# Altium footprint library relays.PcbLib: 20 footprints (part 1 of 2)
Each footprint in its own frame and in the unit in brackets; x right, y up, seen from the top. Pads: shape width x height; smd on the part's side, far side on the other; paste and mask are expansions set on the pad; w line width, h text height; cw(c..) or ccw(c..) is an arc to the next point about the centre after c.
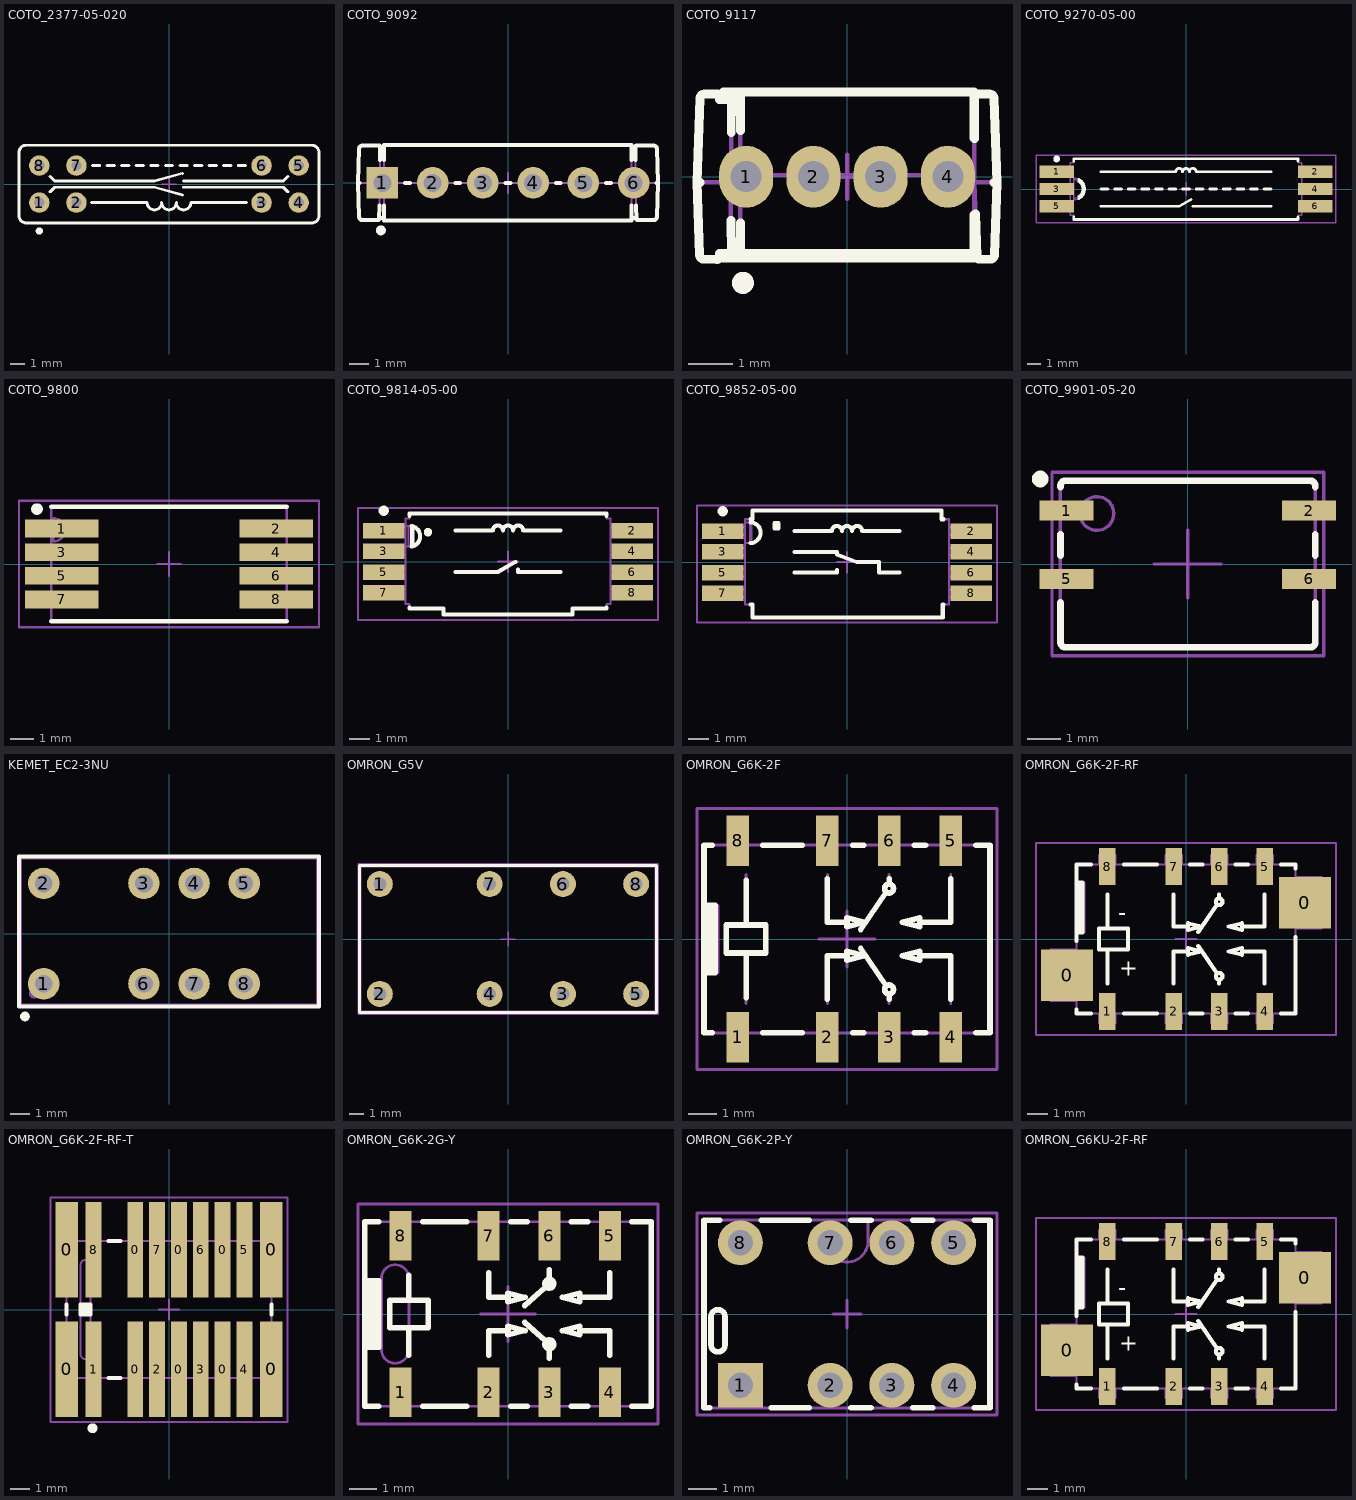
[diagram p0: the footprints below, top view; thin cyan lines are the x and y axes]

## COTO_2377-05-020 [mm] "8 Leads DPST (2 Form A) Reed Relay, Coaxial Shield, 2370 Series"
height 9.7
pads (8):
  round 1.4 hole 0.7: 1(-8.89,-1.27) 2(-6.35,-1.27) 3(6.35,-1.27) 4(8.89,-1.27) 5(8.89,1.27) 6(6.35,1.27) 7(-6.35,1.27) 8(-8.89,1.27)
Top Overlay:
  circle w0.25: c-8.89,-3.215 r0.125
  lines w0.2: -8.148,-0.528 -7.84,-0.22 -1,-0.22 0.932,-0.738 ; -8.148,0.528 -7.84,0.22 -1,0.22 0.932,0.738 ; -5.3,-1.27 -1.5,-1.27 ccw(c-1,-1.27) -0.5,-1.27 ccw(c0,-1.27) 0.5,-1.27 ccw(c1,-1.27) 1.5,-1.27 5.3,-1.27 ; -5.25,1.27 -4.75,1.27 ; -4.25,1.27 -3.75,1.27 ; -3.25,1.27 -2.75,1.27 ; -2.25,1.27 -1.75,1.27 ; -1.25,1.27 -0.75,1.27 ; -0.25,1.27 0.25,1.27 ; 0.75,1.27 1.25,1.27 ; 1,-0.22 7.84,-0.22 8.148,-0.528 ; 1,0.22 7.84,0.22 8.148,0.528 ; 1.75,1.27 2.25,1.27 ; 2.75,1.27 3.25,1.27 ; 3.75,1.27 4.25,1.27 ; 4.75,1.27 5.25,1.27 ; -10.285,-2.165 ccw(c-9.785,-2.165) -9.785,-2.665 9.785,-2.665 ccw(c9.785,-2.165) 10.285,-2.165 10.285,2.165 ccw(c9.785,2.165) 9.785,2.665 -9.785,2.665 ccw(c-9.785,2.165) -10.285,2.165 -10.285,-2.165
Mechanical 1:
  lines w0.1: -8.148,-0.528 -7.84,-0.22 -1,-0.22 0.932,-0.738 ; -8.148,0.528 -7.84,0.22 -1,0.22 0.932,0.738 ; -5.3,-1.27 -1.5,-1.27 ccw(c-1,-1.27) -0.5,-1.27 ccw(c0,-1.27) 0.5,-1.27 ccw(c1,-1.27) 1.5,-1.27 5.3,-1.27 ; -5.25,1.27 -4.75,1.27 ; -4.25,1.27 -3.75,1.27 ; -3.25,1.27 -2.75,1.27 ; -2.25,1.27 -1.75,1.27 ; -1.25,1.27 -0.75,1.27 ; -0.25,1.27 0.25,1.27 ; 0.75,1.27 1.25,1.27 ; 1,-0.22 7.84,-0.22 8.148,-0.528 ; 1,0.22 7.84,0.22 8.148,0.528 ; 1.75,1.27 2.25,1.27 ; 2.75,1.27 3.25,1.27 ; 3.75,1.27 4.25,1.27 ; 4.75,1.27 5.25,1.27 ; -10.285,-2.165 ccw(c-9.785,-2.165) -9.785,-2.665 9.785,-2.665 ccw(c9.785,-2.165) 10.285,-2.165 10.285,2.165 ccw(c9.785,2.165) 9.785,2.665 -9.785,2.665 ccw(c-9.785,2.165) -10.285,2.165 -10.285,-2.165
  text "1" at -7.89,-1.52 h0.5
Mechanical 15:
  lines w0.1: -0.5,0 0,0 ; 0,-0.5 0,0 ; 0,0.5 0,0 ; 0.5,0 0,0 ; -10.285,-2.165 ccw(c-9.785,-2.165) -9.785,-2.665 9.785,-2.665 ccw(c9.785,-2.165) 10.285,-2.165 10.285,2.165 ccw(c9.785,2.165) 9.785,2.665 -9.785,2.665 ccw(c-9.785,2.165) -10.285,2.165 -10.285,-2.165
3D body "REL_COTO_2377-05-020.stp": height 9.7, standoff -3.43, extent -10.285,-2.665 10.285,2.665

## COTO_9092 [mm] "6 Leads, SPDT (2 Form A) Reed Relays, Body 11.24mm x 3.81mm"
height 8.89
pads (6):
  rect 1.6x1.6 hole 0.9: 1(-6.35,0)
  round 1.6 hole 0.9: 2(-3.81,0) 3(-1.27,0) 4(1.27,0) 5(3.81,0) 6(6.35,0)
Top Overlay:
  circle w0.25: c-6.425,-2.4 r0.125
  lines w0.2: -7.5,0 -7.582,0 ; -7.371,-1.88 cw(c-7.369,-1.727) -7.521,-1.733 -7.582,0 ; -7.369,-1.88 -6.585,-1.88 ; -7.369,1.88 ccw(c-7.369,1.727) -7.521,1.733 -7.582,0 ; -7.366,1.88 -6.515,1.88 cw(c-6.515,1.829) -6.464,1.831 ; -6.581,-1.88 ccw(c-6.579,-1.829) -6.528,-1.832 ; -6.528,-1.831 -6.504,-1.14 ; -6.526,-1.778 -6.261,-1.776 ; -6.464,1.144 -6.464,1.829 ; -6.464,1.778 -6.261,1.776 ; -6.261,-1.147 -6.261,-1.906 6.236,-1.906 6.236,-1.144 ; -6.261,1.147 -6.261,1.906 6.236,1.906 6.236,1.144 ; -5.2,0 -4.96,0 ; -2.66,0 -2.42,0 ; -0.12,0 0.12,0 ; 2.42,0 2.66,0 ; 4.96,0 5.2,0 ; 6.236,-1.778 6.501,-1.778 ; 6.236,1.778 6.439,1.778 ; 6.439,1.147 6.439,1.829 cw(c6.49,1.829) 6.49,1.88 7.366,1.88 cw(c7.369,1.727) 7.521,1.733 7.582,0 ; 6.479,-1.143 6.503,-1.831 ccw(c6.554,-1.829) 6.554,-1.88 7.369,-1.88 ccw(c7.369,-1.727) 7.521,-1.733 7.582,0 ; 7.5,0 7.582,0
Mechanical 1:
  lines w0.1: -7.371,-1.88 cw(c-7.369,-1.727) -7.521,-1.733 -7.582,0 ; -7.369,-1.88 -6.585,-1.88 ; -7.369,1.88 ccw(c-7.369,1.727) -7.521,1.733 -7.582,0 ; -7.366,1.88 -6.515,1.88 cw(c-6.515,1.829) -6.464,1.831 ; -6.581,-1.88 ccw(c-6.579,-1.829) -6.528,-1.832 ; -6.528,-1.831 -6.464,0 -6.464,1.829 ; -6.526,-1.778 -6.261,-1.776 ; -6.464,1.778 -6.261,1.776 ; 6.236,-1.778 6.501,-1.778 ; 6.236,1.778 6.439,1.778 ; -7.582,0 7.582,0 ; 7.582,0 7.521,1.733 ccw(c7.369,1.727) 7.366,1.88 6.49,1.88 ccw(c6.49,1.829) 6.439,1.829 6.439,0 6.503,-1.831 ccw(c6.554,-1.829) 6.554,-1.88 7.369,-1.88 ccw(c7.369,-1.727) 7.521,-1.733 7.582,0 ; -6.261,-1.906 6.236,-1.906 6.236,1.906 -6.261,1.906 -6.261,-1.906
Mechanical 15:
  lines w0.1: -7.371,-1.88 cw(c-7.369,-1.727) -7.521,-1.733 -7.582,0 -7.521,1.733 cw(c-7.369,1.727) -7.369,1.88 ; -7.369,-1.88 -6.585,-1.88 ; -7.366,1.88 -6.515,1.88 cw(c-6.515,1.829) -6.464,1.831 -6.464,1.778 -6.261,1.776 -6.261,1.906 6.236,1.906 6.236,1.778 6.439,1.778 6.439,1.829 cw(c6.49,1.829) 6.49,1.88 7.366,1.88 cw(c7.369,1.727) 7.521,1.733 7.582,0 7.521,-1.733 cw(c7.369,-1.727) 7.369,-1.88 6.554,-1.88 cw(c6.554,-1.829) 6.503,-1.831 6.503,-1.78 ; -6.581,-1.88 ccw(c-6.579,-1.829) -6.528,-1.832 -6.528,-1.78 ; -6.526,-1.778 -6.261,-1.776 -6.261,-1.906 6.236,-1.906 6.236,-1.778 6.501,-1.778 ; -0.5,0 0,0 ; 0,-0.5 0,0 ; 0,0.5 0,0 ; 0.5,0 0,0
3D body "REL_COTO_9092.stp": height 8.81, standoff -3.17, extent -7.582,-1.906 7.582,1.906

## COTO_9117 [mm] "4 Leads, SPDT (1 Form A) Reed Relays, Body 6.85mm x 3.81mm"
height 9.77
pads (4):
  oval 1.22x1.4 hole 0.7: 1(-2.28,0) 2(-0.76,0) 3(0.76,0) 4(2.28,0)
Top Overlay:
  circle w0.25: c-2.355,-2.4 r0.125
  lines w0.2: -3.39,-0.127 -3.322,-0.127 ; -2.95,-1.867 ccw(c-2.939,-1.815) -2.886,-1.818 -2.883,-1.74 ; -2.95,1.867 cw(c-2.938,1.815) -2.886,1.818 -2.883,1.74 -2.413,1.74 ; -2.936,-1.867 -3.232,-1.867 cw(c-3.232,-1.765) -3.334,-1.769 -3.391,-0.127 -3.325,1.769 cw(c-3.223,1.766) -3.223,1.867 -2.936,1.867 ; -2.794,-1.74 -2.794,-1.841 2.87,-1.841 2.87,-0.868 ; -2.621,-0.993 -2.614,-1.74 ; -2.618,0.994 -2.61,1.74 ; -2.413,-1.841 -2.413,-1.042 ; -2.413,-1.745 -2.883,-1.74 ; -2.413,1.042 -2.413,1.918 ; -2.413,1.829 -2.794,1.829 -2.794,1.918 2.87,1.918 2.87,0.868 ; 2.883,0.86 2.883,1.816 cw(c2.934,1.816) 2.934,1.867 3.223,1.867 cw(c3.223,1.765) 3.325,1.769 3.391,-0.128 ; 2.908,-0.842 2.942,-1.818 ccw(c2.993,-1.816) 2.993,-1.867 3.232,-1.867 ccw(c3.232,-1.765) 3.334,-1.769 3.391,-0.128 ; 2.939,-1.74 -2.883,-1.74 ; 3.322,-0.128 3.391,-0.128
Mechanical 1:
  lines w0.1: -3.39,-0.127 -2.629,-0.127 ; -2.95,-1.867 ccw(c-2.939,-1.815) -2.886,-1.818 -2.883,-1.74 ; -2.95,1.867 cw(c-2.938,1.815) -2.886,1.818 -2.883,1.74 -2.413,1.74 ; -2.936,-1.867 -3.232,-1.867 cw(c-3.232,-1.765) -3.334,-1.769 -3.391,-0.127 -3.325,1.769 cw(c-3.223,1.766) -3.223,1.867 -2.936,1.867 ; -2.794,-1.74 -2.794,-1.841 2.87,-1.841 2.87,1.918 -2.794,1.918 -2.794,1.829 -2.413,1.829 ; -2.614,-1.74 -2.629,-0.127 ; -2.61,1.74 -2.629,-0.127 ; -2.413,-1.841 -2.413,1.918 ; -2.413,-1.745 -2.883,-1.74 ; -2.413,0.038 2.87,0.038 ; 2.939,-1.74 -2.883,-1.74 ; 2.883,-0.127 2.883,1.816 cw(c2.934,1.816) 2.934,1.867 3.223,1.867 cw(c3.223,1.765) 3.325,1.769 3.391,-0.128 ; 2.883,-0.127 3.391,-0.128 ; 2.883,-0.127 2.942,-1.818 ccw(c2.993,-1.816) 2.993,-1.867 3.232,-1.867 ccw(c3.232,-1.765) 3.334,-1.769 3.391,-0.128
Mechanical 15:
  lines w0.1: -2.798,1.918 cw(c-2.838,1.909) -2.838,1.868 -3.225,1.868 ccw(c-3.225,1.766) -3.326,1.77 -3.393,-0.126 -3.335,-1.768 ccw(c-3.234,-1.764) -3.234,-1.866 -2.816,-1.866 ccw(c-2.816,-1.845) -2.796,-1.841 2.966,-1.841 ; -2.796,1.919 2.871,1.919 ccw(c2.922,1.919) 2.924,1.868 ; -0.5,0 0,0 ; 0,-0.5 0,0 ; 0,0.5 0,0 ; 0.5,0 0,0 ; 2.932,1.868 3.221,1.868 cw(c3.221,1.766) 3.323,1.77 3.389,-0.127 3.332,-1.768 cw(c3.23,-1.764) 3.23,-1.866 2.991,-1.866 cw(c2.988,-1.846) 2.967,-1.846
3D body "REL_COTO_9117.stp": height 9.75, standoff -2.03, extent -3.391,-1.867 3.391,1.918

## COTO_9270-05-00 [mil] "Surface Mount SPST Reed Relay, Gull Wing Lead Style, 9270 Series"
height 192.91
pads (6):
  rect 100x35 smd: 1(-375,50) 2(375,50) 3(-375,0) 4(375,0) 5(-375,-50) 6(375,-50)
Top Overlay:
  circle w9.84: c-375,87.19 r4.92
  lines w7.87: -325.16,-81.28 -325.16,-88.64 324.84,-88.64 324.84,-81.28 ; -325.16,81.28 -325.16,87.49 324.84,87.5 324.84,81.28 ; -311.22,-28.25 ccw(c-325.16,0) -311.22,28.25 ; -311.22,-22.54 ccw(c-325.16,0) -311.22,22.54 ; -246.26,-50 -19.72,-50 14.41,-30.32 ; -246.26,0 -226.38,0 ; -246.26,50 -29.53,50 cw(c-19.68,50) -9.84,50 cw(c0,50) 9.84,50 cw(c19.68,50) 29.53,50 246.26,50 ; -206.69,0 -187.01,0 ; -167.32,0 -147.64,0 ; -127.95,0 -108.27,0 ; -88.58,0 -68.9,0 ; -49.21,0 -29.53,0 ; -9.84,0 9.84,0 ; 19.72,-50 246.26,-50 ; 29.53,0 49.21,0 ; 68.9,0 88.58,0 ; 108.27,0 127.95,0 ; 147.64,0 167.32,0 ; 187.01,0 206.69,0 ; 226.38,0 246.26,0
Mechanical 1:
  circle w3.94: c-375,87.19 r4.07
  lines w3.94: -335.16,-60 -400.05,-60 -400.05,-40 -335.16,-40 ; -335.16,-10 -400.05,-10 -400.05,10 -335.16,10 ; -335.16,40 -400.05,40 -400.05,60 -335.16,60 ; -325.16,-26.5 ccw(c-325.16,0) -325.16,26.5 ; 334.84,-60 399.73,-60 399.73,-40 334.84,-40 ; 334.84,-10 399.73,-10 399.73,10 334.84,10 ; 334.84,40 399.73,40 399.73,60 334.84,60 ; -335.16,-76.64 -325.16,-76.64 -325.16,-88.64 324.84,-88.64 324.84,-76.64 334.84,-76.64 334.84,75.5 324.84,75.5 324.84,87.5 -325.16,87.5 -325.16,75.5 -335.16,75.5 -335.16,-76.64 ; -325.16,-31.5 ccw(c-325.16,0) -325.16,31.5 -325.16,-31.5
Mechanical 15:
  lines w3.94: -19.68,0 0,0 ; 0,-19.68 0,0 ; 0,19.68 0,0 ; 19.68,0 0,0 ; -434.84,-98.49 -434.84,97.35 434.84,97.35 434.84,-98.49 -434.84,-98.49
3D body "REL_COTO_9270-05-00.stp": height 185.67, standoff 0, extent -400.04,-88.63 400.05,87.5

## COTO_9800 [mm] "9800 Serie SMD Reed Relay,  J-Lead Style, COTO 9814 & 9852 Model"
height 5.08
pads (8):
  rect 3.175x0.76 smd: 1(-4.633,1.53) 2(4.633,1.53) 3(-4.633,0.51) 4(4.633,0.51) 5(-4.633,-0.51) 6(4.633,-0.51) 7(-4.633,-1.53) 8(4.633,-1.53)
Top Overlay:
  circle w0.25: c-5.693,2.37 r0.125
  lines w0.2: -5.08,-2.475 5.08,-2.475 ; -5.08,2.475 5.08,2.475
Mechanical 1:
  lines w0.1: -5.08,-1.72 -5.585,-1.72 -5.585,-1.34 -5.08,-1.34 ; -5.08,-0.7 -5.585,-0.7 -5.585,-0.32 -5.08,-0.32 ; -5.08,0.32 -5.585,0.32 -5.585,0.7 -5.08,0.7 ; -5.08,1.34 -5.585,1.34 -5.585,1.72 -5.08,1.72 ; 5.08,-1.72 5.585,-1.72 5.585,-1.34 5.08,-1.34 ; 5.08,-0.7 5.585,-0.7 5.585,-0.32 5.08,-0.32 ; 5.08,0.32 5.585,0.32 5.585,0.7 5.08,0.7 ; 5.08,1.34 5.585,1.34 5.585,1.72 5.08,1.72 ; -5.08,-2.475 -5.08,2.475 ; -5.08,-2.475 -5.08,2.475 ; -5.08,-2.475 5.08,-2.475 5.08,2.475 -5.08,2.475 ; -4.98,0.975 ccw(c-4.98,1.475) -4.98,1.975 ; -4.98,0.975 ccw(c-4.98,1.475) -4.98,1.975 ; -4.98,0.975 -4.98,1.975
Mechanical 15:
  lines w0.1: -0.5,0 0,0 ; 0,-0.5 0,0 ; 0,0.5 0,0 ; 0.5,0 0,0 ; -6.47,-2.725 6.47,-2.725 6.47,2.725 -6.47,2.725 -6.47,-2.725
3D body "REL_COTO_9800.stp": height 5.08, standoff 0, extent -5.585,-2.475 5.585,2.475

## COTO_9814-05-00 [mil] "Surface Mount SPST Reed Relay, Gull Wing Lead Style, 9814 Series"
height 179.92
pads (8):
  rect 80x30 smd: 1(-240,60) 2(240,60) 3(-240,20) 4(240,20) 5(-240,-20) 6(240,-20) 7(-240,-60) 8(240,-60)
Top Overlay:
  circle w9.84: c-240.16,98.43 r4.92
  circle w7.87: c-154.67,57.08 r4.07
  lines w7.87: -190,-88.78 -190,-90.83 -124.9,-90.83 -124.9,-102.44 124.9,-102.44 124.9,-90.83 190,-90.83 190,-88.78 ; -190,88.78 -190,93.53 190,93.53 190,88.78 ; -186.22,29.31 ccw(c-189.72,49) -186.22,68.69 ; -185,29.57 -185,68.44 ; -101.57,-20 -19.72,-20 14.41,-0.32 ; -101.57,60 -29.53,60 cw(c-19.68,60) -9.84,60 cw(c0,60) 9.84,60 cw(c19.68,60) 29.53,60 101.57,60 ; 19.7,-15.09 19.7,-20.01 101.57,-20
Mechanical 1:
  circle w3.94: c-154.67,57.08 r4.07
  lines w3.94: -198,-67.5 -255.02,-67.5 -255.02,-52.5 -198,-52.5 ; -198,-27.5 -255.02,-27.5 -255.02,-12.5 -198,-12.5 ; -198,12.5 -255.02,12.5 -255.02,27.5 -198,27.5 ; -198,29 -189.72,29 ccw(c-189.72,49) -189.72,69 -198,69 ; -198,52.5 -255.02,52.5 -255.02,67.5 -198,67.5 ; -192,29 -192,69 ; -185,29.57 -185,68.44 ; 198,-67.5 255.02,-67.5 255.02,-52.5 198,-52.5 ; 198,-27.5 255.02,-27.5 255.02,-12.5 198,-12.5 ; 198,12.5 255.02,12.5 255.02,27.5 198,27.5 ; 198,52.5 255.02,52.5 255.02,67.5 198,67.5 ; -198,-81.78 -190,-81.78 -190,-90.83 -124.9,-90.83 -124.9,-102.44 124.9,-102.44 124.9,-90.83 190,-90.83 190,-81.78 198,-81.69 198,83.78 190,83.78 190,93.53 -190,93.53 -190,83.78 -198,83.78 -198,-81.78
Mechanical 15:
  lines w3.94: -19.68,0 0,0 ; 0,-19.68 0,0 ; 0,19.68 0,0 ; 19.68,0 0,0 ; -289.84,-112.28 -289.84,103.37 289.84,103.37 289.84,-112.28 -289.84,-112.28
3D body "REL_COTO_9814-05-00.stp": height 180.76, standoff 0, extent -255.02,-102.43 255.03,93.54

## COTO_9852-05-00 [mil] "Surface Mount SPDT Reed Relay, Gull Wing Lead Style, 9852 Series"
height 209.84
pads (8):
  rect 80x30 smd: 1(-240,60) 2(240,60) 3(-240,20) 4(240,20) 5(-240,-20) 6(240,-20) 7(-240,-60) 8(240,-60)
Top Overlay:
  circle w9.84: c-240.16,98.43 r4.92
  lines w7.87: -186.22,-82 -183,-82 -183,-107.02 185,-107.02 185,-82 186.22,-82 ; -186.22,37.01 ccw(c-187,56.99) -186.22,76.98 ; -186.22,83 -183,83 -183,100.01 183,99.94 183,83 186.22,83 ; -101.57,-20 -19.72,-20 -19.72,-15.08 ; -101.57,20 -19.72,20 -19.72,15.08 19.68,0 62.2,-0.01 62.2,-20 101.57,-20 ; -101.57,60 -29.53,60 cw(c-19.68,60) -9.84,60 cw(c0,60) 9.84,60 cw(c19.68,60) 29.53,60 101.57,60 ; -140.1,65.64 -140.1,75.21 -132.08,75.21 -132.08,65.64 -140.1,65.64
Mechanical 1:
  lines w3.94: -197,-67.5 -253.03,-67.5 -253.03,-52.5 -197,-52.5 ; -197,-27.5 -253.03,-27.5 -253.03,-12.5 -197,-12.5 ; -197,12.5 -253.03,12.5 -253.03,27.5 -197,27.5 ; -197,36.99 -187,36.99 ; -197,52.5 -253.03,52.5 -253.03,67.5 -197,67.5 ; -197,76.99 -187,76.99 ; -185,37.09 -185,76.89 ; 197,-67.5 253.03,-67.5 253.03,-52.5 197,-52.5 ; 197,-27.5 253.03,-27.5 253.03,-12.5 197,-12.5 ; 197,12.5 253.03,12.5 253.03,27.5 197,27.5 ; 197,52.5 253.03,52.5 253.03,67.5 197,67.5 ; -187,36.99 ccw(c-187,56.99) -187,76.99 ; -187,36.99 -187,76.99 ; -197,-82 -183,-82 -183,-107.02 185,-107.02 185,-82 197,-82 197,83 183,83 183,99.94 -183,100.01 -183,83 -197,83 -197,-82 ; -140.1,65.64 -132.08,65.64 -132.08,75.21 -140.1,75.21 -140.1,65.64
Mechanical 15:
  lines w3.94: -19.68,0 0,0 ; 0,-19.68 0,0 ; 0,19.68 0,0 ; 19.68,0 0,0 ; -289.84,-116.86 289.84,-116.86 289.84,109.77 -289.84,109.87 -289.84,-116.86
3D body "REL_COTO_9852-05-00.stp": height 197.56, standoff 0, extent -253.03,-107.02 253.04,100.01

## COTO_9901-05-20 [mm] "SMD Reed Relay,  J-Lead Style, COTO 9900 Series"
height 3.6
pads (4):
  rect 1.6x0.6 smd: 1(-3.6,1.585) 2(3.6,1.585) 5(-3.6,-0.445) 6(3.6,-0.445)
Top Overlay:
  circle w0.25: c-4.385,2.525 r0.125
  lines w0.2: -3.785,-1.145 -3.785,-2.324 ccw(c-3.635,-2.324) -3.635,-2.474 3.635,-2.474 ccw(c3.635,-2.324) 3.785,-2.324 3.785,-1.145 ; -3.785,0.255 -3.785,0.885 ; -3.785,2.285 -3.785,2.325 cw(c-3.635,2.325) -3.635,2.475 3.635,2.475 cw(c3.635,2.325) 3.785,2.325 3.785,2.285 ; 3.785,0.255 3.785,0.885
Mechanical 1:
  circle w0.1: c-2.7,1.5 r0.5
  lines w0.1: -3.79,-0.255 -3.97,-0.255 -3.97,-0.635 -3.785,-0.635 ; -3.79,1.775 -3.97,1.775 -3.97,1.395 -3.785,1.395 ; 3.785,1.775 3.97,1.775 3.97,1.395 3.79,1.395 ; 3.79,-0.635 3.97,-0.635 3.97,-0.255 3.79,-0.255 ; -3.785,-2.324 ccw(c-3.635,-2.324) -3.635,-2.474 3.635,-2.474 ccw(c3.635,-2.324) 3.785,-2.324 3.785,2.325 ccw(c3.635,2.325) 3.635,2.475 -3.635,2.475 ccw(c-3.635,2.325) -3.785,2.325 -3.785,-2.324
Mechanical 15:
  lines w0.1: -1,0 0,0 ; 0,-1 0,0 ; 0,1 0,0 ; 1,0 0,0 ; -4.035,-2.724 4.035,-2.724 4.035,2.725 -4.035,2.725 -4.035,-2.724
3D body "REL_COTO_9901-05-20.stp": height 3.6, standoff 0, extent -3.97,-2.475 3.97,2.475

## KEMET_EC2-3NU [mm]
pads (10):
  round 1.6 hole 0.9: 1(-6.35,-2.54) 2(-6.35,2.54) 3(-1.27,2.54) 4(1.27,2.54) 5(3.81,2.54) 6(-1.27,-2.54) 7(1.27,-2.54) 8(3.81,-2.54)
  round 0.5 on Top Overlay: ""(-7.3,-4.2)
  round 0.5 on Mech1: ""(-6.85,-3.04)
Top Overlay:
  lines w0.2: -7.6,-3.7 -7.6,3.9 7.6,3.9 7.6,-3.7 -7.6,-3.7
Mechanical 1:
  lines w0.1: -7.5,-3.59 -7.5,3.81 7.5,3.81 7.5,-3.59 -7.5,-3.59
Mechanical 15:
  lines w0.1: -7.55,-3.64 -7.55,3.86 7.55,3.86 7.55,-3.64 -7.55,-3.64
3D body "User Library-EC2-12.STEP": height 8.2, standoff -3.5, extent -7.5,-3.59 7.5,3.81

## OMRON_G5V [mm] "Omron G5V relay"
height 10
pads (8):
  round 1.8 hole 0.9: 1(-8.89,3.81) 2(-8.89,-3.81) 3(3.81,-3.81) 4(-1.27,-3.81) 5(8.89,-3.81) 6(3.81,3.81) 7(-1.27,3.81) 8(8.89,3.81)
Top Overlay:
  lines w0.2: -10.3,-5.1 -10.3,5.1 10.3,5.1 10.3,-5.1 -10.3,-5.1
Mechanical 1:
  lines w0.1: -10.2,-5 10.2,-5 10.2,5 -10.2,5 -10.2,-5
Mechanical 15:
  lines w0.1: -0.5,0 0.5,0 ; 0,-0.5 0,0.5 ; -10.4,-5.207 -10.4,5.207 10.4,5.207 10.4,-5.207 -10.4,-5.207
3D body "OMRON G5V-2.step": height 10.92, standoff -4, extent -10.2,-5 10.2,5

## OMRON_G6K-2F [mm] "SMD Relay,  Body 10.2mm x 6.7mm, OMRON_G6K-2F"
height 5.4
pads (8):
  rect 0.8x1.8 smd: 1(-3.9,-3.5) 2(-0.7,-3.5) 3(1.5,-3.5) 4(3.7,-3.5) 5(3.7,3.5) 6(1.5,3.5) 7(-0.7,3.5) 8(-3.9,3.5)
Top Overlay:
  circle w0.2: c1.5,-1.8 r0.159
  circle w0.2: c1.5,1.8 r0.159
  lines w0.2: -5.1,-1.2 -4.7,-1.2 -4.7,1.2 -5.1,1.2 ; -5,-1.2 -5,1.2 ; -4.9,-1.2 -4.9,1.2 ; -4.8,-3.35 -5.1,-3.35 -5.1,3.35 -4.8,3.35 ; -4.8,-1.2 -4.8,1.2 ; -3.6,-2.1 -3.6,-0.5 ; -3.6,0.5 -3.6,2.1 ; -3,-3.35 -1.6,-3.35 ; -3,3.35 -1.6,3.35 ; -0.7,-2.15 -0.7,-0.6 0,-0.6 ; -0.7,2.15 -0.7,0.6 0,0.6 ; 0.2,-3.35 0.6,-3.35 ; 0.2,3.35 0.6,3.35 ; 0.493,-0.338 1.4,-1.675 ; 0.493,0.338 1.4,1.675 ; 1.5,-2.15 1.5,-2 ; 1.5,2 1.5,2.15 ; 2.4,-3.35 2.8,-3.35 ; 2.4,3.35 2.8,3.35 ; 2.6,-0.6 3.7,-0.6 3.7,-2.15 ; 2.6,0.6 3.7,0.6 3.7,2.15 ; 4.6,-3.35 5.1,-3.35 5.1,3.35 4.6,3.35 ; -4.3,-0.5 -4.3,0.5 -2.9,0.5 -2.9,-0.5 -4.3,-0.5 ; 0,-0.759 0,-0.441 0.635,-0.6 0,-0.759 ; 0,0.441 0.635,0.6 0,0.759 0,0.441 ; 1.965,-0.6 2.6,-0.441 2.6,-0.759 1.965,-0.6 ; 1.965,0.6 2.6,0.759 2.6,0.441 1.965,0.6
Mechanical 1:
  circle w0.1: c1.5,1.8 r0.159
  circle w0.1: c1.5,-1.8 r0.159
  lines w0.1: -5.1,-1.2 -4.6,-1.2 -4.6,1.2 -5.1,1.2 ; -5,-1.2 -5,1.2 ; -4.9,-1.2 -4.9,1.2 ; -4.8,-1.2 -4.8,1.2 ; -4.7,-1.2 -4.7,1.2 ; -3.6,-2.3 -3.6,-0.5 ; -3.6,0.5 -3.6,2.3 ; -0.7,-2.3 -0.7,-0.6 0,-0.6 ; -0.7,2.3 -0.7,0.6 0,0.6 ; 0.493,-0.338 1.4,-1.675 ; 0.493,0.338 1.4,1.675 ; 1.5,-2.3 1.5,-2 ; 1.5,2 1.5,2.3 ; 2.6,-0.6 3.7,-0.6 3.7,-2.3 ; 2.6,0.6 3.7,0.6 3.7,2.3 ; -5.1,-3.35 5.1,-3.35 5.1,3.35 -5.1,3.35 -5.1,-3.35 ; -4.3,-0.5 -2.9,-0.5 -2.9,0.5 -4.3,0.5 -4.3,-0.5 ; 0,-0.759 0,-0.441 0.635,-0.6 0,-0.759 ; 0,0.441 0,0.759 0.635,0.6 0,0.441 ; 1.965,-0.6 2.6,-0.441 2.6,-0.759 1.965,-0.6 ; 1.965,0.6 2.6,0.759 2.6,0.441 1.965,0.6
Mechanical 15:
  lines w0.1: -1,0 0,0 ; 0,-1 0,0 ; 0,1 0,0 ; 1,0 0,0 ; -5.35,-4.65 5.35,-4.65 5.35,4.65 -5.35,4.65 -5.35,-4.65
3D body "REL_OMRON_G6K-2F.stp": height 5.4, standoff 0, extent -5.1,-3.9 5.1,3.9

## OMRON_G6K-2F-RF [mm] "SMD Relay,  Body 10.3mm x 6.9mm, OMRON G6KU-2F-RF"
height 5.4
pads (10):
  rect 2.5x2.5 smd: 0(-5.75,-1.75) 0(5.75,1.75)
  rect 0.8x1.8 smd: 1(-3.8,-3.5) 2(-0.6,-3.5) 3(1.6,-3.5) 4(3.8,-3.5) 5(3.8,3.5) 6(1.6,3.5) 7(-0.6,3.5) 8(-3.8,3.5)
Top Overlay:
  circle w0.2: c1.6,1.8 r0.159
  circle w0.2: c1.6,-1.8 r0.159
  lines w0.2: -5.3,-3.4 -5.3,-3.6 -4.6,-3.6 ; -5.3,-0.1 -5.3,3.6 -4.6,3.6 ; -5.2,0.325 -5.2,2.725 ; -5.1,0.325 -5.1,2.725 ; -3.8,-2.15 -3.8,-0.6 ; -3.8,0.6 -3.8,2.15 ; -3,-3.6 -1.4,-3.6 ; -3,3.6 -1.4,3.6 ; -0.6,-2.15 -0.6,-0.6 0.1,-0.6 ; -0.6,2.15 -0.6,0.6 0.1,0.6 ; 0.2,-3.6 0.8,-3.6 ; 0.2,3.6 0.8,3.6 ; 0.593,-0.338 1.5,-1.675 ; 0.593,0.338 1.5,1.675 ; 1.6,-2.15 1.6,-2 ; 1.6,2 1.6,2.15 ; 2.4,-3.6 3,-3.6 ; 2.4,3.6 3,3.6 ; 2.7,-0.6 3.8,-0.6 3.8,-2.15 ; 2.7,0.6 3.8,0.6 3.8,2.15 ; 4.6,-3.6 5.3,-3.6 5.3,0.1 ; 4.6,3.6 5.3,3.6 5.3,3.4 ; -5.3,0.325 -5,0.325 -5,2.725 -5.3,2.725 -5.3,0.325 ; -4.2,-0.5 -4.2,0.5 -2.8,0.5 -2.8,-0.5 -4.2,-0.5 ; 0.1,-0.759 0.735,-0.6 0.1,-0.441 0.1,-0.759 ; 0.1,0.441 0.1,0.759 0.735,0.6 0.1,0.441 ; 2.065,-0.6 2.7,-0.759 2.7,-0.441 2.065,-0.6 ; 2.065,0.6 2.7,0.441 2.7,0.759 2.065,0.6
  text "-" at -3.284,0.89 h0.8
  text "+" at -3.234,-1.785 h0.8
Mechanical 1:
  circle w0.1: c1.6,-1.8 r0.159
  circle w0.1: c1.6,1.8 r0.159
  lines w0.1: -5.305,-0.5 -6.55,-0.5 -6.55,-3 -5.3,-3 ; -5.2,0.325 -5.2,2.725 ; -5.1,0.325 -5.1,2.725 ; -5,0.325 -5,2.725 ; -4.2,-3.6 -4.2,-4.05 -3.4,-4.05 -3.4,-3.6 ; -4.2,3.6 -4.2,4.05 -3.4,4.05 -3.4,3.6 ; -3.8,-2.15 -3.8,-0.6 ; -3.8,0.6 -3.8,2.15 ; -1,-3.6 -1,-4.05 -0.2,-4.05 -0.2,-3.6 ; -1,3.6 -1,4.05 -0.2,4.05 -0.2,3.6 ; -0.6,-2.15 -0.6,-0.6 0.1,-0.6 ; -0.6,2.15 -0.6,0.6 0.1,0.6 ; 0.593,-0.338 1.5,-1.675 ; 0.593,0.338 1.5,1.675 ; 1.2,-3.6 1.2,-4.05 2,-4.05 2,-3.6 ; 1.2,3.6 1.2,4.05 2,4.05 2,3.6 ; 1.6,-2.15 1.6,-2 ; 1.6,2 1.6,2.15 ; 2.7,-0.6 3.8,-0.6 3.8,-2.15 ; 2.7,0.6 3.8,0.6 3.8,2.15 ; 3.4,-3.6 3.4,-4.05 4.2,-4.05 4.2,-3.6 ; 3.4,3.6 3.4,4.05 4.2,4.05 4.2,3.6 ; 5.3,3 6.55,3 6.55,0.5 5.305,0.5 ; -5.3,-3.6 -5.3,3.6 5.3,3.6 5.3,-3.6 -5.3,-3.6 ; -5.3,0.325 -4.9,0.325 -4.9,2.725 -5.3,2.725 -5.3,0.325 ; -4.2,-0.5 -2.8,-0.5 -2.8,0.5 -4.2,0.5 -4.2,-0.5 ; 0.1,-0.759 0.735,-0.6 0.1,-0.441 0.1,-0.759 ; 0.1,0.441 0.1,0.759 0.735,0.6 0.1,0.441 ; 2.065,-0.6 2.7,-0.759 2.7,-0.441 2.065,-0.6 ; 2.065,0.6 2.7,0.441 2.7,0.759 2.065,0.6
  text "+" at -3.234,-1.785 h0.8
  text "-" at -3.284,0.89 h0.8
Mechanical 15:
  lines w0.1: 0,0 -0.5,0 0,0 ; 0,0 0,-0.5 0,0 ; 0,0 0,0.5 0,0 ; 0,0 0.5,0 0,0 ; -7.25,-4.65 7.25,-4.65 7.25,4.65 -7.25,4.65 -7.25,-4.65
3D body "REL_OMRON_G6K-2F-RF.stp": height 5.7, standoff 0, extent -6.55,-4.05 6.55,4.05

## OMRON_G6K-2F-RF-T [mm] "SMD Relay,  Body 10.7mm x 6.9mm, OMRON G6KU-2F-RF-T"
height 5.4
pads (18):
  rect 1.15x4.8 smd: 0(-5.15,-3) 0(-5.15,3) 0(5.15,-3) 0(5.15,3)
  rect 0.8x4.8 smd: 0(-1.7,-3) 0(-1.7,3) 0(0.5,-3) 0(0.5,3) 0(2.7,-3) 0(2.7,3) 1(-3.8,-3) 2(-0.6,-3) 3(1.6,-3) 4(3.8,-3) 5(3.8,3) 6(1.6,3) 7(-0.6,3) 8(-3.8,3)
Top Overlay:
  circle w0.25: c-3.85,-5.975 r0.125
  lines w0.2: -5.15,-0.25 -5.15,0.25 ; -4.35,-0.25 -4.35,0.25 ; -4.25,-0.25 -4.25,0.25 ; -4.15,-0.25 -4.15,0.25 ; -4.05,-0.25 -4.05,0.25 ; -3.05,-3.45 -2.45,-3.45 ; -3.05,3.45 -2.45,3.45 ; 5.15,-0.25 5.15,0.25 ; -4.45,-0.25 -4.45,0.25 -3.95,0.25 -3.95,-0.25 -4.45,-0.25
Mechanical 1:
  lines w0.1: -5.513,-3.45 5.488,-3.45 ; -5.513,3.45 5.488,3.45 ; -4.663,-3.45 -4.663,-4.3 -5.513,-4.3 -5.513,-3.25 -5.15,-3.25 -5.15,3.25 -5.513,3.25 -5.513,4.3 -4.663,4.3 -4.663,3.45 ; -4.05,-3.45 -4.05,-4.05 -3.55,-4.05 -3.55,-3.45 ; -4.05,3.45 -4.05,4.05 -3.55,4.05 -3.55,3.45 ; -1.95,-3.45 -1.95,-4.3 -1.45,-4.3 -1.45,-3.45 ; -1.95,3.45 -1.95,4.3 -1.45,4.3 -1.45,3.45 ; -0.85,-3.45 -0.85,-4.05 -0.35,-4.05 -0.35,-3.45 ; -0.85,3.45 -0.85,4.05 -0.35,4.05 -0.35,3.45 ; 0.25,-3.45 0.25,-4.3 0.75,-4.3 0.75,-3.45 ; 0.25,3.45 0.25,4.3 0.75,4.3 0.75,3.45 ; 1.35,-3.45 1.35,-4.05 1.85,-4.05 1.85,-3.45 ; 1.35,3.45 1.35,4.05 1.85,4.05 1.85,3.45 ; 2.45,-3.45 2.45,-4.3 2.95,-4.3 2.95,-3.45 ; 2.45,3.45 2.45,4.3 2.95,4.3 2.95,3.45 ; 3.55,-3.45 3.55,-4.05 4.05,-4.05 4.05,-3.45 ; 3.55,3.45 3.55,4.05 4.05,4.05 4.05,3.45 ; 4.638,-3.45 4.638,-4.3 5.488,-4.3 5.488,-3.25 5.15,-3.25 5.15,3.25 5.488,3.25 5.488,4.3 4.638,4.3 4.638,3.45 ; -4.45,-2.25 ccw(c-4.2,-2.25) -3.95,-2.25 -3.95,2.25 ccw(c-4.2,2.25) -4.45,2.25 -4.45,-2.25
Mechanical 15:
  lines w0.1: -0.5,0 0,0 ; 0,-0.5 0,0 ; 0,0.5 0,0 ; 0.5,0 0,0 ; -5.975,-5.65 5.975,-5.65 5.975,5.65 -5.975,5.65 -5.975,-5.65
3D body "REL_OMRON_G6K-2F-RF-T.stp": height 5.4, standoff 0, extent -5.512,-4.3 5.488,4.3

## OMRON_G6K-2G-Y [mm] "SMD Relay,  Body 10.2mm x 6.7mm, (Inside-L Surface Mounting Terminal)OMRON_G6K-2F"
height 5.4
pads (8):
  rect 0.8x1.8 smd: 1(-3.9,-2.85) 2(-0.7,-2.85) 3(1.5,-2.85) 4(3.7,-2.85) 5(3.7,2.85) 6(1.5,2.85) 7(-0.7,2.85) 8(-3.9,2.85)
Top Overlay:
  circle w0.2: c1.5,1.1 r0.159
  circle w0.2: c1.5,-1.1 r0.159
  lines w0.2: -4.9,-1.2 -4.9,1.2 ; -4.8,-1.2 -4.8,1.2 ; -4.7,-3.35 -5.2,-3.35 -5.2,3.35 -4.7,3.35 ; -3.6,-1.5 -3.6,-0.5 ; -3.6,0.5 -3.6,1.4 ; -3.1,-3.35 -1.5,-3.35 ; -3.1,3.35 -1.5,3.35 ; -0.7,-1.5 -0.7,-0.6 0,-0.6 ; -0.7,1.5 -0.7,0.6 0,0.6 ; 0.1,-3.35 0.7,-3.35 ; 0.1,3.35 0.7,3.35 ; 0.6,-0.3 1.5,-1.1 ; 0.6,0.3 1.5,1.1 1.47,1.056 ; 1.5,-1.6 1.5,-1.3 ; 1.5,1.3 1.5,1.6 ; 2.3,-3.35 2.9,-3.35 ; 2.3,3.35 2.9,3.35 ; 2.6,-0.6 3.7,-0.6 3.7,-1.5 ; 2.6,0.6 3.7,0.6 3.7,1.5 ; 4.5,-3.35 5.2,-3.35 5.2,3.35 4.5,3.35 ; -5.1,-1.2 -5.1,1.2 -4.7,1.2 -4.7,-1.2 -5.1,-1.2 ; -4.3,-0.5 -2.9,-0.5 -2.9,0.5 -4.3,0.5 -4.3,-0.5 ; 0,-0.759 0,-0.441 0.635,-0.6 0,-0.759 ; 0,0.441 0.635,0.6 0,0.759 0,0.441 ; 1.965,-0.6 2.6,-0.441 2.6,-0.759 1.965,-0.6 ; 1.965,0.6 2.6,0.759 2.6,0.441 1.965,0.6
Mechanical 1:
  circle w0.1: c1.5,1.1 r0.159
  circle w0.1: c1.5,-1.1 r0.159
  lines w0.1: -4.9,-1.2 -4.9,1.2 ; -4.8,-1.2 -4.8,1.2 ; -4.7,-1.2 -4.7,1.2 ; -3.6,-1.5 -3.6,-0.5 ; -3.6,0.5 -3.6,1.4 ; -0.7,-1.5 -0.7,-0.6 0,-0.6 ; -0.7,1.5 -0.7,0.6 0,0.6 ; 0.6,-0.3 1.5,-1.1 ; 0.6,0.3 1.5,1.1 1.47,1.056 ; 1.5,-1.6 1.5,-1.3 ; 1.5,1.3 1.5,1.6 ; 2.6,-0.6 3.7,-0.6 3.7,-1.5 ; 2.6,0.6 3.7,0.6 3.7,1.5 ; -5.2,-3.35 5.2,-3.35 5.2,3.35 -5.2,3.35 -5.2,-3.35 ; -5.1,-1.2 -4.6,-1.2 -4.6,1.2 -5.1,1.2 -5.1,-1.2 ; -4.6,-1.29 ccw(c-4.1,-1.29) -3.6,-1.29 -3.6,1.29 ccw(c-4.1,1.289) -4.6,1.289 -4.6,-1.29 ; -4.3,-0.5 -2.9,-0.5 -2.9,0.5 -4.3,0.5 -4.3,-0.5 ; 0,-0.759 0,-0.441 0.635,-0.6 0,-0.759 ; 0,0.441 0,0.759 0.635,0.6 0,0.441 ; 1.965,-0.6 2.6,-0.441 2.6,-0.759 1.965,-0.6 ; 1.965,0.6 2.6,0.759 2.6,0.441 1.965,0.6
Mechanical 15:
  lines w0.1: -1,0 0,0 ; 0,-1 0,0 ; 0,1 0,0 ; 1,0 0,0 ; -5.45,-4 5.45,-4 5.45,4 -5.45,4 -5.45,-4
3D body "REL_OMRON_G6K-2G-Y.stp": height 5.4, standoff 0, extent -5.2,-3.45 5.2,3.45

## OMRON_G6K-2P-Y [mm] "THT Relay,  Body 10.2mm x 6.5mm, OMRON_G6K-2P"
height 5
pads (8):
  rect 1.6x1.6 hole 0.9: 1(-3.8,-2.54)
  round 1.6 hole 0.9: 2(-0.6,-2.54) 3(1.6,-2.54) 4(3.8,-2.54) 5(3.8,2.54) 6(1.6,2.54) 7(-0.6,2.54) 8(-3.8,2.54)
Top Overlay:
  lines w0.2: -4.9,-3.35 -5.1,-3.35 -5.1,3.35 -4.544,3.35 ; -3.056,3.35 -1.344,3.35 ; -2.7,-3.35 -1.344,-3.35 ; 0.144,-3.35 0.856,-3.35 ; 0.144,3.35 0.856,3.35 ; 2.344,-3.35 3.056,-3.35 ; 2.344,3.35 3.056,3.35 ; 4.544,-3.35 5.1,-3.35 5.1,3.35 4.544,3.35 ; -4.85,-1.1 ccw(c-4.6,-1.1) -4.35,-1.1 -4.35,-0.1 ccw(c-4.6,-0.1) -4.85,-0.1 -4.85,-1.1
Mechanical 1:
  lines w0.1: -5.1,-3.35 5.1,-3.35 5.1,3.35 -5.1,3.35 -5.1,-3.35 ; -4.85,-1.1 ccw(c-4.6,-1.1) -4.35,-1.1 -4.35,-0.1 ccw(c-4.6,-0.1) -4.85,-0.1 -4.85,-1.1 ; -0.75,2.6 ccw(c0,2.6) 0.75,2.6 0.75,3.35 -0.75,3.35 -0.75,2.6
Mechanical 15:
  lines w0.1: -0.5,0 0,0 ; 0,-0.5 0,0 ; 0,0.5 0,0 ; 0.5,0 0,0 ; -5.35,-3.6 5.35,-3.6 5.35,3.6 -5.35,3.6 -5.35,-3.6
3D body "REL_OMRON_G6K-2P-Y.stp": height 5, standoff -3.5, extent -5.1,-3.35 5.1,3.35

## OMRON_G6KU-2F-RF [mm] "SMD Relay,  Body 10.3mm x 6.9mm, OMRON G6KU-2F-RF"
height 5.4
pads (10):
  rect 2.5x2.5 smd: 0(-5.75,-1.75) 0(5.75,1.75)
  rect 0.8x1.8 smd: 1(-3.8,-3.5) 2(-0.6,-3.5) 3(1.6,-3.5) 4(3.8,-3.5) 5(3.8,3.5) 6(1.6,3.5) 7(-0.6,3.5) 8(-3.8,3.5)
Top Overlay:
  circle w0.2: c1.6,1.8 r0.159
  circle w0.2: c1.6,-1.8 r0.159
  lines w0.2: -5.3,-3.4 -5.3,-3.6 -4.6,-3.6 ; -5.3,-0.1 -5.3,3.6 -4.6,3.6 ; -5.2,0.325 -5.2,2.725 ; -5.1,0.325 -5.1,2.725 ; -3.8,-2.15 -3.8,-0.6 ; -3.8,0.6 -3.8,2.15 ; -3,-3.6 -1.4,-3.6 ; -3,3.6 -1.4,3.6 ; -0.6,-2.15 -0.6,-0.6 0.1,-0.6 ; -0.6,2.15 -0.6,0.6 0.1,0.6 ; 0.2,-3.6 0.8,-3.6 ; 0.2,3.6 0.8,3.6 ; 0.593,-0.338 1.5,-1.675 ; 0.593,0.338 1.5,1.675 ; 1.6,-2.15 1.6,-2 ; 1.6,2 1.6,2.15 ; 2.4,-3.6 3,-3.6 ; 2.4,3.6 3,3.6 ; 2.7,-0.6 3.8,-0.6 3.8,-2.15 ; 2.7,0.6 3.8,0.6 3.8,2.15 ; 4.6,-3.6 5.3,-3.6 5.3,0.1 ; 4.6,3.6 5.3,3.6 5.3,3.4 ; -5.3,0.325 -5,0.325 -5,2.725 -5.3,2.725 -5.3,0.325 ; -4.2,-0.5 -4.2,0.5 -2.8,0.5 -2.8,-0.5 -4.2,-0.5 ; 0.1,-0.759 0.735,-0.6 0.1,-0.441 0.1,-0.759 ; 0.1,0.441 0.1,0.759 0.735,0.6 0.1,0.441 ; 2.065,-0.6 2.7,-0.759 2.7,-0.441 2.065,-0.6 ; 2.065,0.6 2.7,0.441 2.7,0.759 2.065,0.6
  text "-" at -3.284,0.89 h0.8
  text "+" at -3.234,-1.785 h0.8
Mechanical 1:
  circle w0.1: c1.6,1.8 r0.159
  circle w0.1: c1.6,-1.8 r0.159
  lines w0.1: -5.305,-0.5 -6.55,-0.5 -6.55,-3 -5.3,-3 ; -5.2,0.325 -5.2,2.725 ; -5.1,0.325 -5.1,2.725 ; -5,0.325 -5,2.725 ; -4.2,-3.6 -4.2,-4.05 -3.4,-4.05 -3.4,-3.6 ; -4.2,3.6 -4.2,4.05 -3.4,4.05 -3.4,3.6 ; -3.8,-2.15 -3.8,-0.6 ; -3.8,0.6 -3.8,2.15 ; -1,-3.6 -1,-4.05 -0.2,-4.05 -0.2,-3.6 ; -1,3.6 -1,4.05 -0.2,4.05 -0.2,3.6 ; -0.6,-2.15 -0.6,-0.6 0.1,-0.6 ; -0.6,2.15 -0.6,0.6 0.1,0.6 ; 0.593,-0.338 1.5,-1.675 ; 0.593,0.338 1.5,1.675 ; 1.2,-3.6 1.2,-4.05 2,-4.05 2,-3.6 ; 1.2,3.6 1.2,4.05 2,4.05 2,3.6 ; 1.6,-2.15 1.6,-2 ; 1.6,2 1.6,2.15 ; 2.7,-0.6 3.8,-0.6 3.8,-2.15 ; 2.7,0.6 3.8,0.6 3.8,2.15 ; 3.4,-3.6 3.4,-4.05 4.2,-4.05 4.2,-3.6 ; 3.4,3.6 3.4,4.05 4.2,4.05 4.2,3.6 ; 5.3,3 6.55,3 6.55,0.5 5.305,0.5 ; -5.3,-3.6 5.3,-3.6 5.3,3.6 -5.3,3.6 -5.3,-3.6 ; -5.3,0.325 -5.3,2.725 -4.9,2.725 -4.9,0.325 -5.3,0.325 ; -4.2,-0.5 -4.2,0.5 -2.8,0.5 -2.8,-0.5 -4.2,-0.5 ; 0.1,-0.759 0.1,-0.441 0.735,-0.6 0.1,-0.759 ; 0.1,0.441 0.735,0.6 0.1,0.759 0.1,0.441 ; 2.065,-0.6 2.7,-0.441 2.7,-0.759 2.065,-0.6 ; 2.065,0.6 2.7,0.441 2.7,0.759 2.065,0.6
  text "-" at -3.284,0.89 h0.8
  text "+" at -3.234,-1.785 h0.8
Mechanical 15:
  lines w0.1: 0,0 0.5,0 0,0 ; 0,0 0,0.5 0,0 ; 0,0 0,-0.5 0,0 ; 0,0 -0.5,0 0,0 ; -7.25,-4.65 7.25,-4.65 7.25,4.65 -7.25,4.65 -7.25,-4.65
3D body "REL_OMRON_G6KU-2F-RF.stp": height 5.7, standoff 0, extent -6.55,-4.05 6.55,4.05